# Altium integrated library crystal_my.IntLib: 131 symbols
Pins are listed as number, name and electrical type; pins without a type are passive.

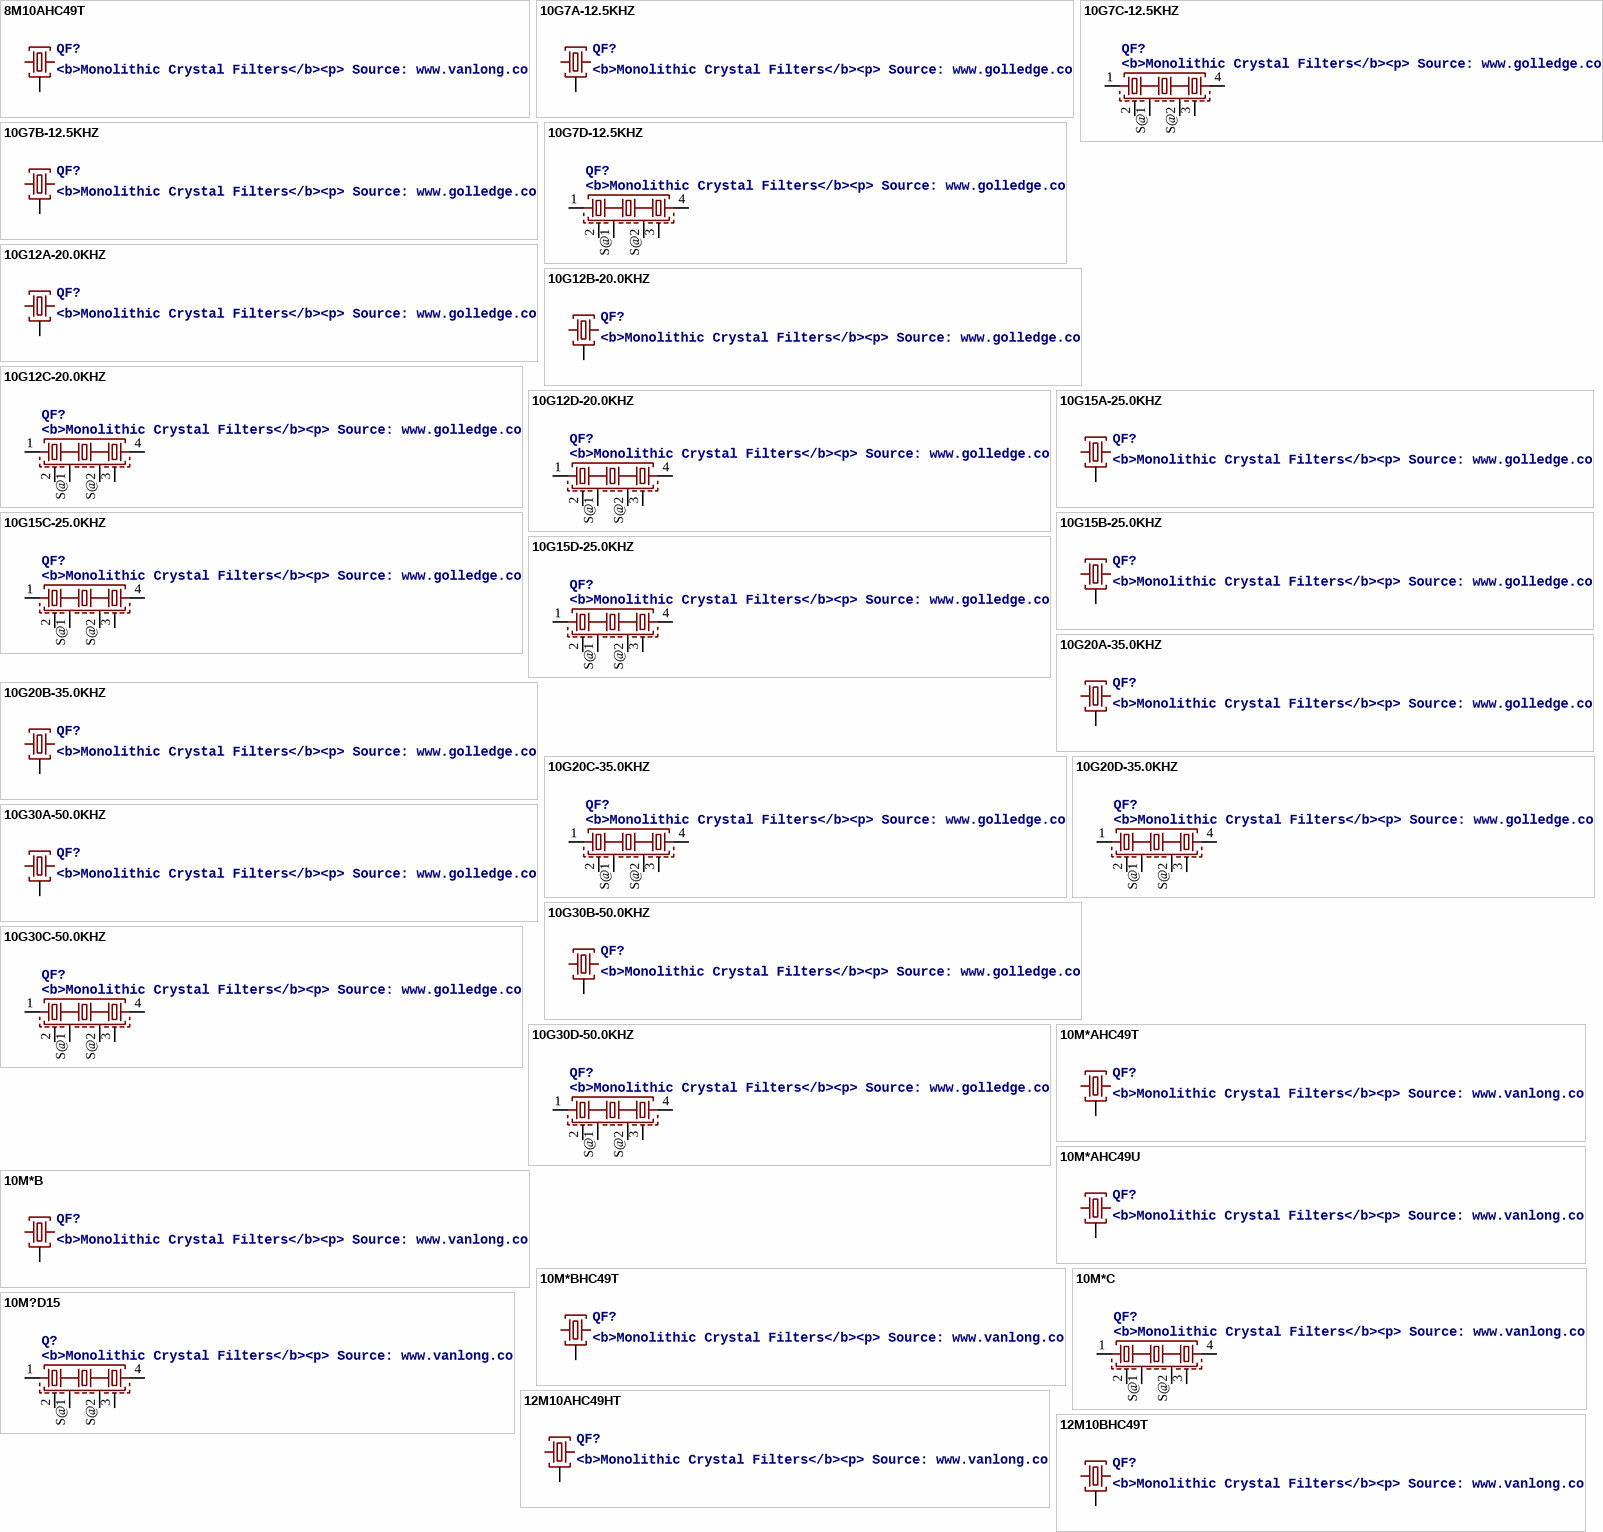
[diagram p0: symbols 8M10AHC49T to 12M10BHC49T]

## 8M10AHC49T
designator QF?, comment <b>Monolithic Crystal Filters</b><p> / Source: www.vanlong.com
OC_FARNELL: unknown; OC_NEWARK: unknown
footprint HC49U
pins: 1, 2, 3

## 10G7A-12.5KHZ
designator QF?, comment <b>Monolithic Crystal Filters</b><p> / Source: www.golledge.com
OC_FARNELL: unknown; OC_NEWARK: unknown
footprint HC49U
pins: 1, 2, 3

## 10G7B-12.5KHZ
designator QF?, comment <b>Monolithic Crystal Filters</b><p> / Source: www.golledge.com
OC_FARNELL: unknown; OC_NEWARK: unknown
footprint HC49U
pins: 1, 2, 3

## 10G7C-12.5KHZ
designator QF?, comment <b>Monolithic Crystal Filters</b><p> / Source: www.golledge.com
OC_FARNELL: unknown; OC_NEWARK: unknown
footprint F15/12B
pins: 1, 2, 3, 4, S@1 S, S@2 S

## 10G7D-12.5KHZ
designator QF?, comment <b>Monolithic Crystal Filters</b><p> / Source: www.golledge.com
OC_FARNELL: unknown; OC_NEWARK: unknown
footprint F18/12P
pins: 1, 2, 3, 4, S@1 S, S@2 S

## 10G12A-20.0KHZ
designator QF?, comment <b>Monolithic Crystal Filters</b><p> / Source: www.golledge.com
OC_FARNELL: unknown; OC_NEWARK: unknown
footprint HC49U
pins: 1, 2, 3

## 10G12B-20.0KHZ
designator QF?, comment <b>Monolithic Crystal Filters</b><p> / Source: www.golledge.com
OC_FARNELL: unknown; OC_NEWARK: unknown
footprint HC49U
pins: 1, 2, 3

## 10G12C-20.0KHZ
designator QF?, comment <b>Monolithic Crystal Filters</b><p> / Source: www.golledge.com
OC_FARNELL: unknown; OC_NEWARK: unknown
footprint F15/12B
pins: 1, 2, 3, 4, S@1 S, S@2 S

## 10G12D-20.0KHZ
designator QF?, comment <b>Monolithic Crystal Filters</b><p> / Source: www.golledge.com
OC_FARNELL: unknown; OC_NEWARK: unknown
footprint F18/12P
pins: 1, 2, 3, 4, S@1 S, S@2 S

## 10G15A-25.0KHZ
designator QF?, comment <b>Monolithic Crystal Filters</b><p> / Source: www.golledge.com
OC_FARNELL: unknown; OC_NEWARK: unknown
footprint HC49U
pins: 1, 2, 3

## 10G15B-25.0KHZ
designator QF?, comment <b>Monolithic Crystal Filters</b><p> / Source: www.golledge.com
OC_FARNELL: unknown; OC_NEWARK: unknown
footprint HC49U
pins: 1, 2, 3

## 10G15C-25.0KHZ
designator QF?, comment <b>Monolithic Crystal Filters</b><p> / Source: www.golledge.com
OC_FARNELL: unknown; OC_NEWARK: unknown
footprint F15/12B
pins: 1, 2, 3, 4, S@1 S, S@2 S

## 10G15D-25.0KHZ
designator QF?, comment <b>Monolithic Crystal Filters</b><p> / Source: www.golledge.com
OC_FARNELL: unknown; OC_NEWARK: unknown
footprint F18/12P
pins: 1, 2, 3, 4, S@1 S, S@2 S

## 10G20A-35.0KHZ
designator QF?, comment <b>Monolithic Crystal Filters</b><p> / Source: www.golledge.com
OC_FARNELL: unknown; OC_NEWARK: unknown
footprint HC49U
pins: 1, 2, 3

## 10G20B-35.0KHZ
designator QF?, comment <b>Monolithic Crystal Filters</b><p> / Source: www.golledge.com
OC_FARNELL: unknown; OC_NEWARK: unknown
footprint HC49U
pins: 1, 2, 3

## 10G20C-35.0KHZ
designator QF?, comment <b>Monolithic Crystal Filters</b><p> / Source: www.golledge.com
OC_FARNELL: unknown; OC_NEWARK: unknown
footprint F15/12B
pins: 1, 2, 3, 4, S@1 S, S@2 S

## 10G20D-35.0KHZ
designator QF?, comment <b>Monolithic Crystal Filters</b><p> / Source: www.golledge.com
OC_FARNELL: unknown; OC_NEWARK: unknown
footprint F18/12P
pins: 1, 2, 3, 4, S@1 S, S@2 S

## 10G30A-50.0KHZ
designator QF?, comment <b>Monolithic Crystal Filters</b><p> / Source: www.golledge.com
OC_FARNELL: unknown; OC_NEWARK: unknown
footprint HC49U
pins: 1, 2, 3

## 10G30B-50.0KHZ
designator QF?, comment <b>Monolithic Crystal Filters</b><p> / Source: www.golledge.com
OC_FARNELL: unknown; OC_NEWARK: unknown
footprint HC49U
pins: 1, 2, 3

## 10G30C-50.0KHZ
designator QF?, comment <b>Monolithic Crystal Filters</b><p> / Source: www.golledge.com
OC_FARNELL: unknown; OC_NEWARK: unknown
footprint F15/12B
pins: 1, 2, 3, 4, S@1 S, S@2 S

## 10G30D-50.0KHZ
designator QF?, comment <b>Monolithic Crystal Filters</b><p> / Source: www.golledge.com
OC_FARNELL: unknown; OC_NEWARK: unknown
footprint F18/12P
pins: 1, 2, 3, 4, S@1 S, S@2 S

## 10M*AHC49T
designator QF?, comment <b>Monolithic Crystal Filters</b><p> / Source: www.vanlong.com
OC_FARNELL: unknown; OC_NEWARK: unknown
footprint HC49U
pins: 1, 2, 3

## 10M*AHC49U
designator QF?, comment <b>Monolithic Crystal Filters</b><p> / Source: www.vanlong.com
OC_FARNELL: unknown; OC_NEWARK: unknown
footprint HC49U
pins: 1, 2, 3

## 10M*B
designator QF?, comment <b>Monolithic Crystal Filters</b><p> / Source: www.vanlong.com
OC_FARNELL: unknown; OC_NEWARK: unknown
footprint HC49U
pins: 1, 2, 3

## 10M*BHC49T
designator QF?, comment <b>Monolithic Crystal Filters</b><p> / Source: www.vanlong.com
OC_FARNELL: unknown; OC_NEWARK: unknown
footprint HC49U
pins: 1, 2, 3

## 10M*C
designator QF?, comment <b>Monolithic Crystal Filters</b><p> / Source: www.vanlong.com
OC_FARNELL: unknown; OC_NEWARK: unknown
footprint M-3
pins: 1, 2, 3, 4, S@1 S, S@2 S

## 10M?D15
designator Q?, comment <b>Monolithic Crystal Filters</b><p> / Source: www.vanlong.com
OC_FARNELL: unknown; OC_NEWARK: unknown
footprint M-4
pins: 1, 2, 3, 4, S@1 S, S@2 S

## 12M10AHC49HT
designator QF?, comment <b>Monolithic Crystal Filters</b><p> / Source: www.vanlong.com
OC_FARNELL: unknown; OC_NEWARK: unknown
footprint HC49U
pins: 1, 2, 3

## 12M10BHC49T
designator QF?, comment <b>Monolithic Crystal Filters</b><p> / Source: www.vanlong.com
OC_FARNELL: unknown; OC_NEWARK: unknown
footprint HC49U
pins: 1, 2, 3

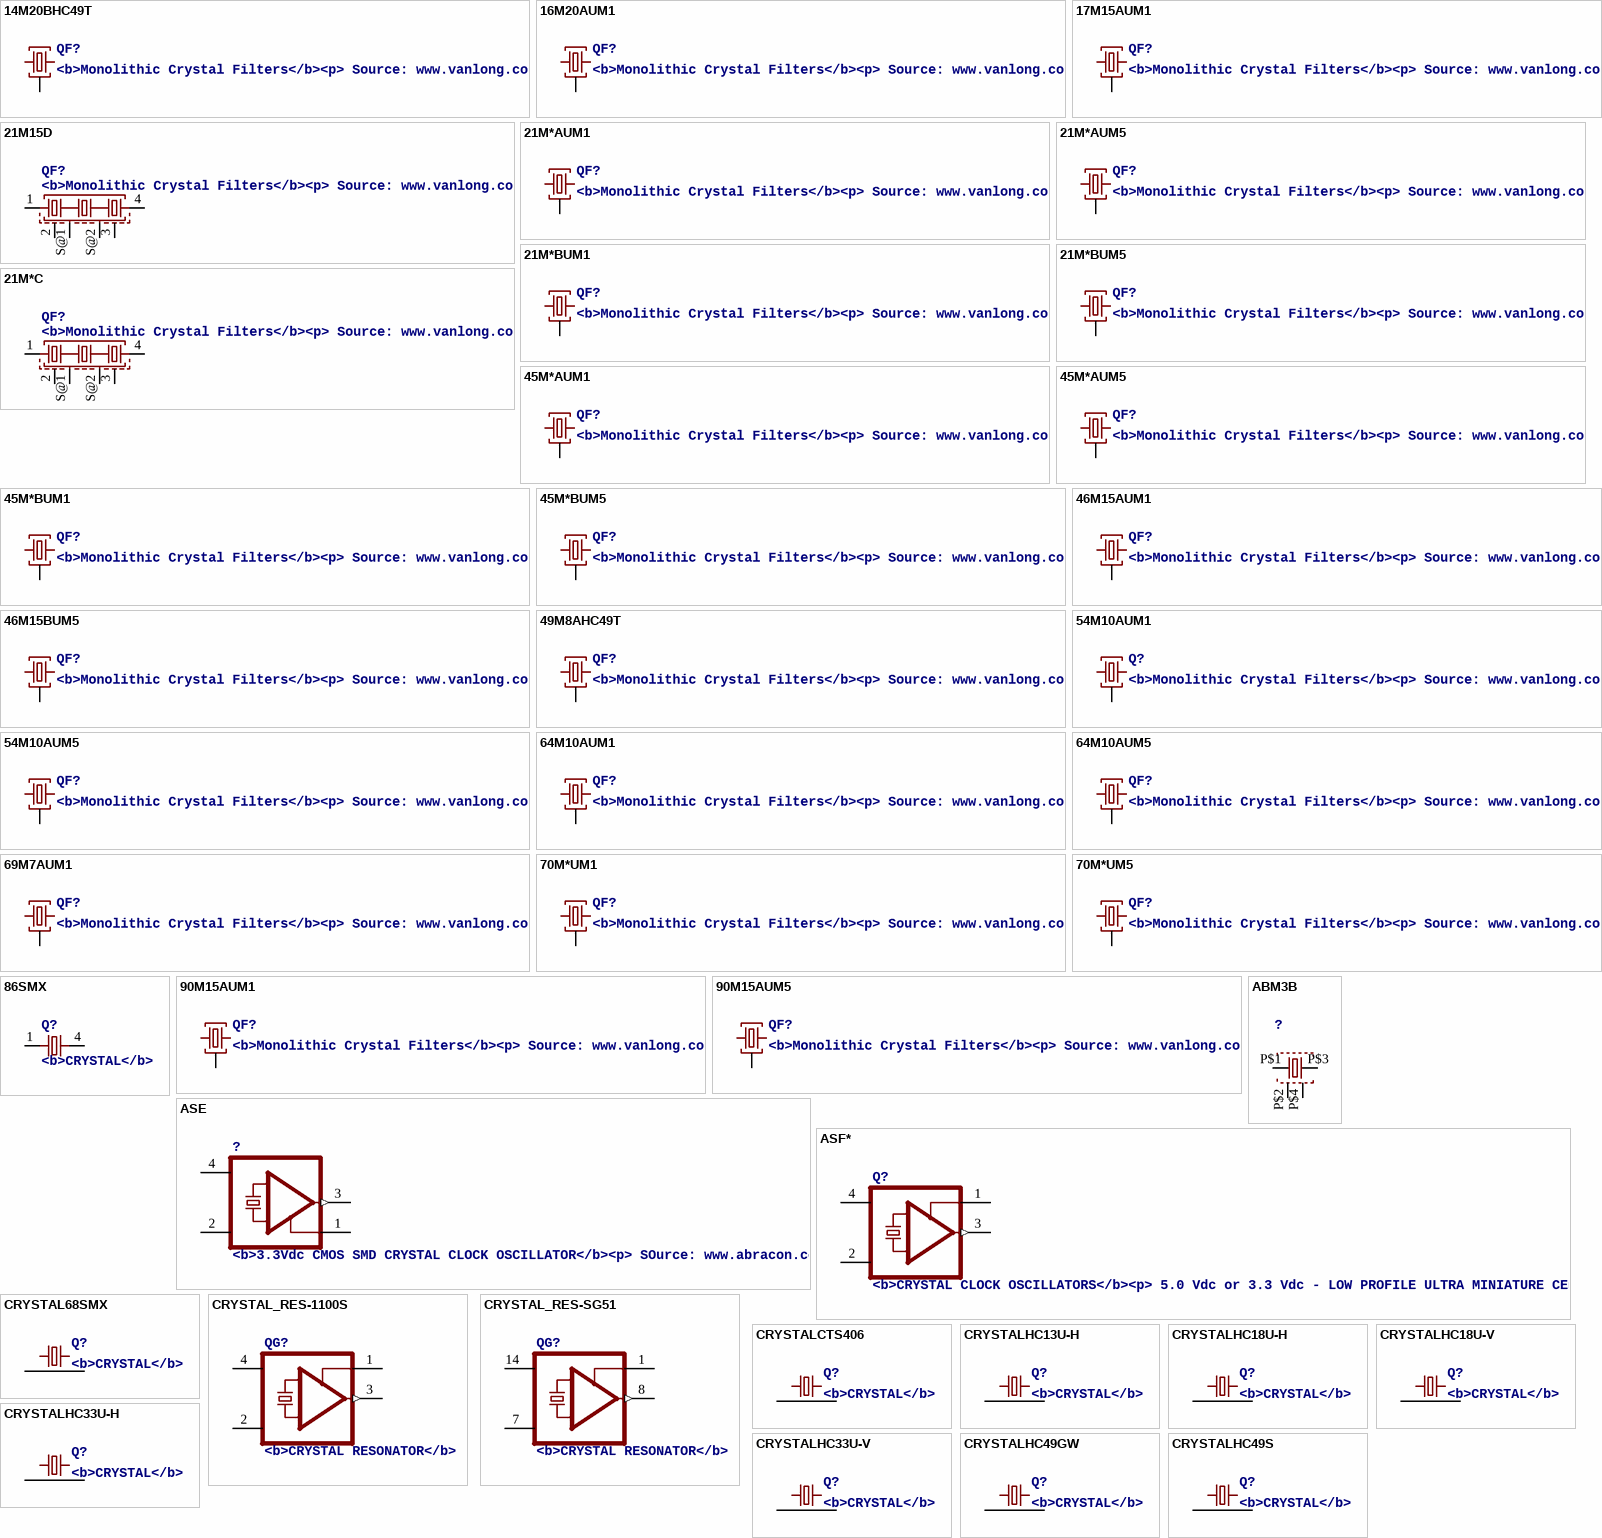
[diagram p1: symbols 14M20BHC49T to CRYSTALHC49S]

## 14M20BHC49T
designator QF?, comment <b>Monolithic Crystal Filters</b><p> / Source: www.vanlong.com
OC_FARNELL: unknown; OC_NEWARK: unknown
footprint HC49U
pins: 1, 2, 3

## 16M20AUM1
designator QF?, comment <b>Monolithic Crystal Filters</b><p> / Source: www.vanlong.com
OC_FARNELL: unknown; OC_NEWARK: unknown
footprint UM1
pins: 1, 2, 3

## 17M15AUM1
designator QF?, comment <b>Monolithic Crystal Filters</b><p> / Source: www.vanlong.com
OC_FARNELL: unknown; OC_NEWARK: unknown
footprint UM1
pins: 1, 2, 3

## 21M15D
designator QF?, comment <b>Monolithic Crystal Filters</b><p> / Source: www.vanlong.com
OC_FARNELL: unknown; OC_NEWARK: unknown
footprint M-2
pins: 1, 2, 3, 4, S@1 S, S@2 S

## 21M*AUM1
designator QF?, comment <b>Monolithic Crystal Filters</b><p> / Source: www.vanlong.com
OC_FARNELL: unknown; OC_NEWARK: unknown
footprint UM1
pins: 1, 2, 3

## 21M*AUM5
designator QF?, comment <b>Monolithic Crystal Filters</b><p> / Source: www.vanlong.com
OC_FARNELL: unknown; OC_NEWARK: unknown
footprint UM5
pins: 1, 2, 3

## 21M*BUM1
designator QF?, comment <b>Monolithic Crystal Filters</b><p> / Source: www.vanlong.com
OC_FARNELL: unknown; OC_NEWARK: unknown
footprint UM1
pins: 1, 2, 3

## 21M*BUM5
designator QF?, comment <b>Monolithic Crystal Filters</b><p> / Source: www.vanlong.com
OC_FARNELL: unknown; OC_NEWARK: unknown
footprint UM5
pins: 1, 2, 3

## 21M*C
designator QF?, comment <b>Monolithic Crystal Filters</b><p> / Source: www.vanlong.com
OC_FARNELL: unknown; OC_NEWARK: unknown
footprint M-1
pins: 1, 2, 3, 4, S@1 S, S@2 S

## 45M*AUM1
designator QF?, comment <b>Monolithic Crystal Filters</b><p> / Source: www.vanlong.com
OC_FARNELL: unknown; OC_NEWARK: unknown
footprint UM1
pins: 1, 2, 3

## 45M*AUM5
designator QF?, comment <b>Monolithic Crystal Filters</b><p> / Source: www.vanlong.com
OC_FARNELL: unknown; OC_NEWARK: unknown
footprint UM5
pins: 1, 2, 3

## 45M*BUM1
designator QF?, comment <b>Monolithic Crystal Filters</b><p> / Source: www.vanlong.com
OC_FARNELL: unknown; OC_NEWARK: unknown
footprint UM1
pins: 1, 2, 3

## 45M*BUM5
designator QF?, comment <b>Monolithic Crystal Filters</b><p> / Source: www.vanlong.com
OC_FARNELL: unknown; OC_NEWARK: unknown
footprint UM5
pins: 1, 2, 3

## 46M15AUM1
designator QF?, comment <b>Monolithic Crystal Filters</b><p> / Source: www.vanlong.com
OC_FARNELL: unknown; OC_NEWARK: unknown
footprint UM1
pins: 1, 2, 3

## 46M15BUM5
designator QF?, comment <b>Monolithic Crystal Filters</b><p> / Source: www.vanlong.com
OC_FARNELL: unknown; OC_NEWARK: unknown
footprint UM5
pins: 1, 2, 3

## 49M8AHC49T
designator QF?, comment <b>Monolithic Crystal Filters</b><p> / Source: www.vanlong.com
OC_FARNELL: unknown; OC_NEWARK: unknown
footprint HC49U
pins: 1, 2, 3

## 54M10AUM1
designator Q?, comment <b>Monolithic Crystal Filters</b><p> / Source: www.vanlong.com
OC_FARNELL: unknown; OC_NEWARK: unknown
footprint UM1
pins: 1, 2, 3

## 54M10AUM5
designator QF?, comment <b>Monolithic Crystal Filters</b><p> / Source: www.vanlong.com
OC_FARNELL: unknown; OC_NEWARK: unknown
footprint UM5
pins: 1, 2, 3

## 64M10AUM1
designator QF?, comment <b>Monolithic Crystal Filters</b><p> / Source: www.vanlong.com
OC_FARNELL: unknown; OC_NEWARK: unknown
footprint UM1
pins: 1, 2, 3

## 64M10AUM5
designator QF?, comment <b>Monolithic Crystal Filters</b><p> / Source: www.vanlong.com
OC_FARNELL: unknown; OC_NEWARK: unknown
footprint UM5
pins: 1, 2, 3

## 69M7AUM1
designator QF?, comment <b>Monolithic Crystal Filters</b><p> / Source: www.vanlong.com
OC_FARNELL: unknown; OC_NEWARK: unknown
footprint UM1
pins: 1, 2, 3

## 70M*UM1
designator QF?, comment <b>Monolithic Crystal Filters</b><p> / Source: www.vanlong.com
OC_FARNELL: unknown; OC_NEWARK: unknown
footprint UM1
pins: 1, 2, 3

## 70M*UM5
designator QF?, comment <b>Monolithic Crystal Filters</b><p> / Source: www.vanlong.com
OC_FARNELL: unknown; OC_NEWARK: unknown
footprint UM5
pins: 1, 2, 3

## 86SMX
designator Q?, comment <b>CRYSTAL</b>
MPN: XTAL003321- 86SMX; MF: C-MAC  FREQUENCY PRODUCTS LTD; OC_FARNELL: 6344914; OC_NEWARK: 01H9866
footprint 86SMX
pins: 1, 4 2

## 90M15AUM1
designator QF?, comment <b>Monolithic Crystal Filters</b><p> / Source: www.vanlong.com
OC_FARNELL: unknown; OC_NEWARK: unknown
footprint UM1
pins: 1, 2, 3

## 90M15AUM5
designator QF?, comment <b>Monolithic Crystal Filters</b><p> / Source: www.vanlong.com
OC_FARNELL: unknown; OC_NEWARK: unknown
footprint UM5
pins: 1, 2, 3

## ABM3B
designator ?
footprint ABM3B
pins: P$1 1, P$2 2, P$3 3, P$4 4

## ASE
designator ?, comment <b>3.3Vdc CMOS SMD CRYSTAL CLOCK OSCILLATOR</b><p> / SOurce: www.abracon.com
OC_FARNELL: unknown; OC_NEWARK: unknown
footprint ASE
pins: 1 TRI, 2 GND (power), 3 OUT (out), 4 VDD (power)

## ASF*
designator Q?, comment <b>CRYSTAL CLOCK OSCILLATORS</b><p> / 5.0 Vdc or 3.3 Vdc - LOW PROFILE ULTRA MINIATURE CERAMIC SURFACE MOUNT<br> / Source: http://www.abracon.com/Oscillators/asf1-L-L1.pdf
MPN: ASFLM1-50.000MHZ-C-T; MPN: ASFL1-125.000MHZ-EC-T; MF: Abracon Corporation; OC_FARNELL: unknown; OC_NEWARK: unknown; OC_FARNELL: 1838931; OC_NEWARK: 99M0411; OC_NEWARK: 19M1882
footprint ASF
pins: 1 OE, 2 GND (power), 3 FO (out), 4 VCC (power)

## CRYSTAL68SMX
designator Q?, comment <b>CRYSTAL</b>
OC_FARNELL: 6344860; OC_NEWARK: unknown
footprint 86SMX
pins: 1, 2 (power), 4 3, 4 (power)

## CRYSTAL_RES-1100S
designator QG?, comment <b>CRYSTAL RESONATOR</b>
OC_FARNELL: unknown; OC_NEWARK: unknown
footprint 1100S
pins: 1 CON, 2 VSS (power), 3 OUT (out), 4 VDD (power)

## CRYSTAL_RES-SG51
designator QG?, comment <b>CRYSTAL RESONATOR</b>
OC_FARNELL: unknown; OC_NEWARK: unknown
footprint SG51
pins: 1 CON, 7 VSS (power), 8 OUT (out), 14 VDD (power)

## CRYSTALCTS406
designator Q?, comment <b>CRYSTAL</b>
OC_FARNELL: unknown; OC_NEWARK: unknown
footprint CTS406
pins: 1, 2 (power), 3, 4 (power)

## CRYSTALHC13U-H
designator Q?, comment <b>CRYSTAL</b>
OC_FARNELL: unknown; OC_NEWARK: unknown
footprint HC13U-H
pins: 1, 2 3, 2 (power), 4 (power)

## CRYSTALHC18U-H
designator Q?, comment <b>CRYSTAL</b>
OC_FARNELL: unknown; OC_NEWARK: unknown
footprint HC18U-H
pins: 1, 2 3, 2 (power), 4 (power)

## CRYSTALHC18U-V
designator Q?, comment <b>CRYSTAL</b>
OC_FARNELL: unknown; OC_NEWARK: unknown
footprint HC18U-V
pins: 1, 2 3, 2 (power), 4 (power)

## CRYSTALHC33U-H
designator Q?, comment <b>CRYSTAL</b>
OC_FARNELL: unknown; OC_NEWARK: unknown
footprint HC33U-H
pins: 1, 2 3, 2 (power), 4 (power)

## CRYSTALHC33U-V
designator Q?, comment <b>CRYSTAL</b>
OC_FARNELL: unknown; OC_NEWARK: unknown
footprint HC33U-V
pins: 1, 2 3, 2 (power), 4 (power)

## CRYSTALHC49GW
designator Q?, comment <b>CRYSTAL</b>
OC_FARNELL: unknown; OC_NEWARK: unknown
footprint HC49GW
pins: 1, 2 3, 2 (power), 4 (power)

## CRYSTALHC49S
designator Q?, comment <b>CRYSTAL</b>
OC_FARNELL: 1667008; OC_NEWARK: unknown
footprint HC49/S
pins: 1, 2 3, 2 (power), 4 (power)

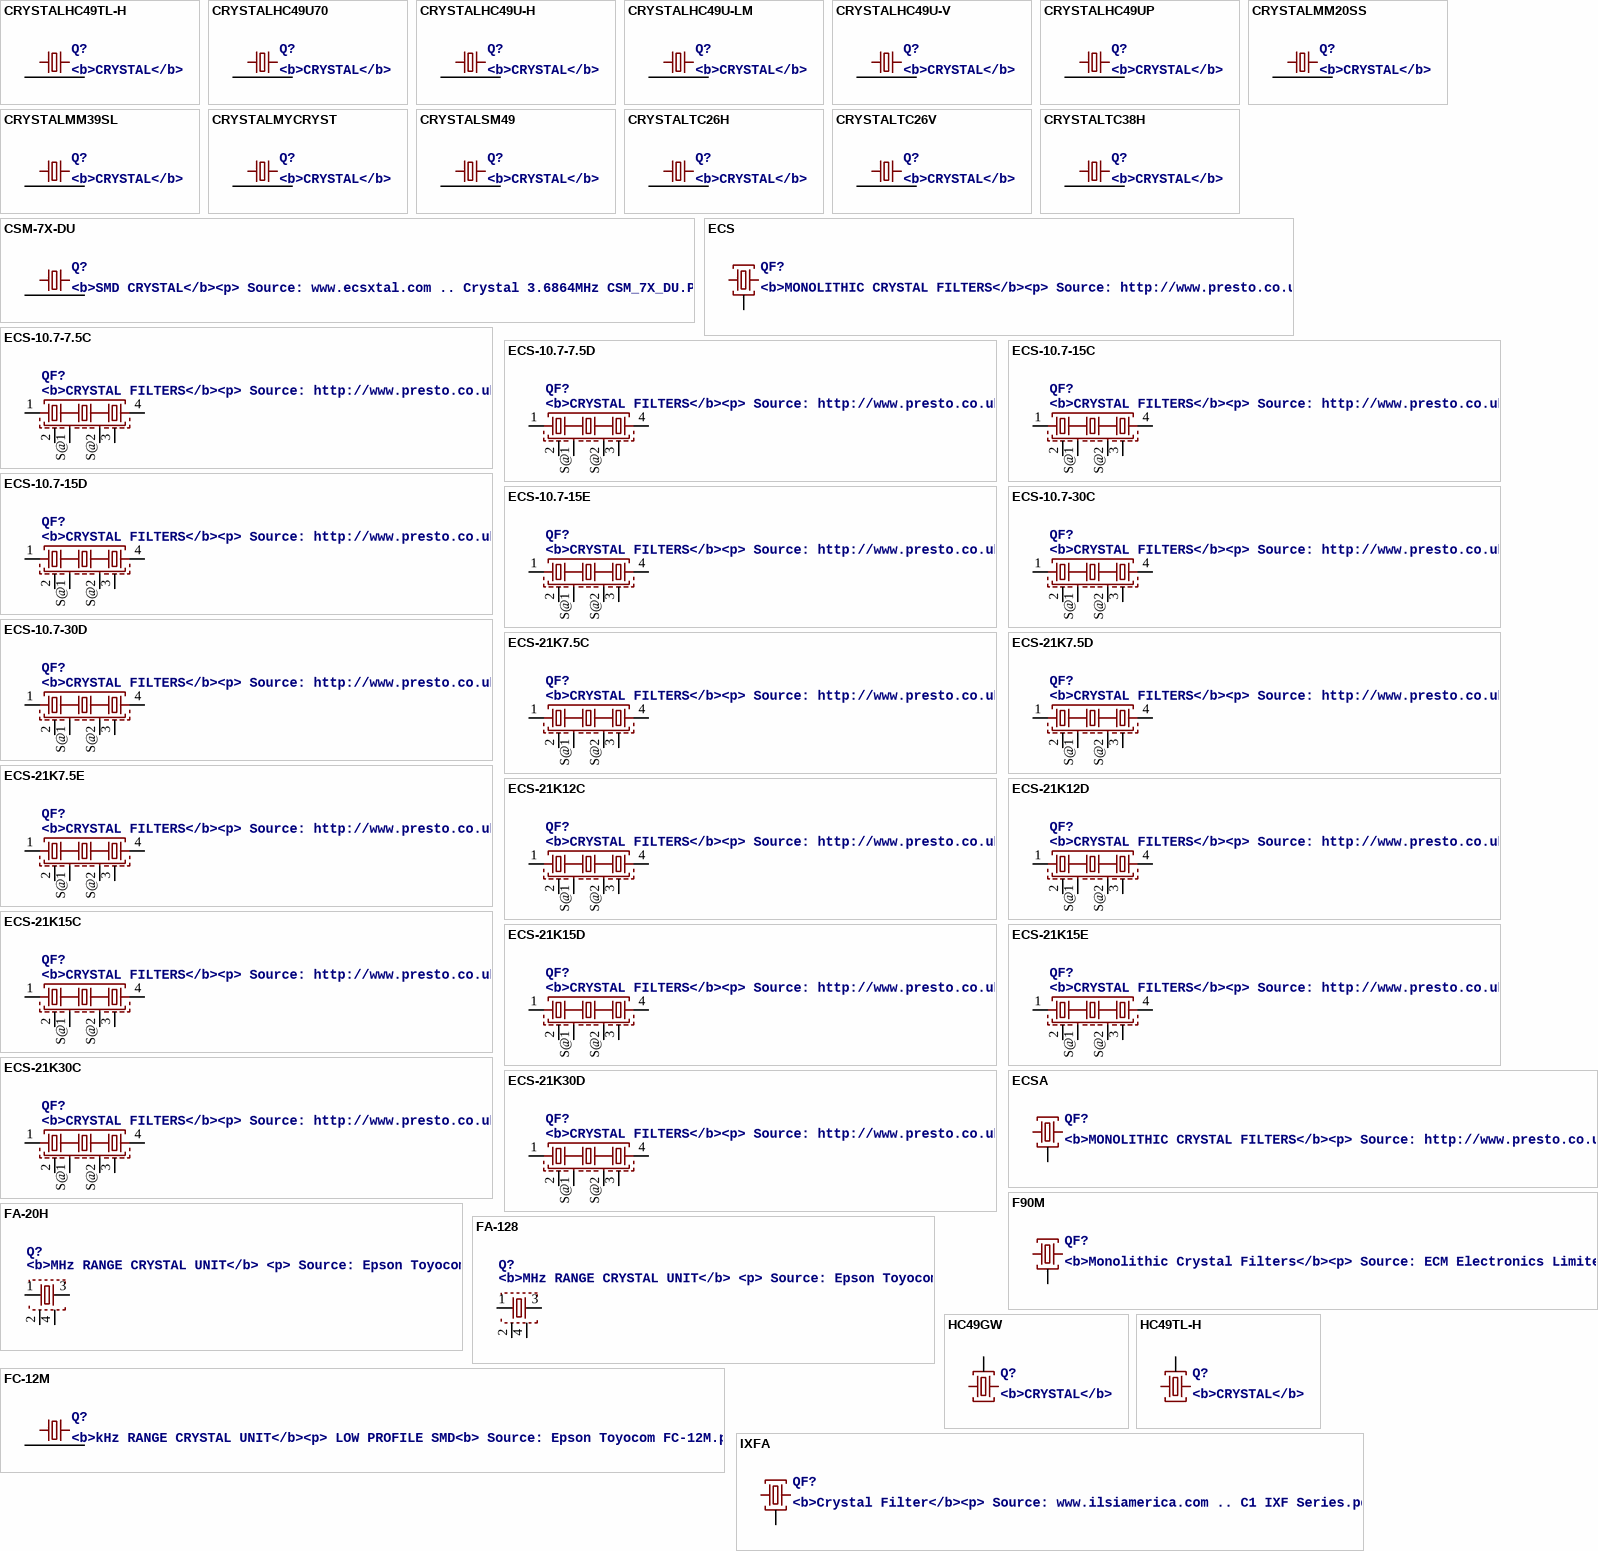
[diagram p2: symbols CRYSTALHC49TL-H to IXFA]

## CRYSTALHC49TL-H
designator Q?, comment <b>CRYSTAL</b>
OC_FARNELL: unknown; OC_NEWARK: unknown
footprint HC49TL-H
pins: 1, 2 3, 2 (power), 4 (power)

## CRYSTALHC49U70
designator Q?, comment <b>CRYSTAL</b>
OC_FARNELL: unknown; OC_NEWARK: unknown
footprint HC49U70
pins: 1, 2 3, 2 (power), 4 (power)

## CRYSTALHC49U-H
designator Q?, comment <b>CRYSTAL</b>
OC_FARNELL: 1666973; OC_NEWARK: unknown
footprint HC49U-H
pins: 1, 2 3, 2 (power), 4 (power)

## CRYSTALHC49U-LM
designator Q?, comment <b>CRYSTAL</b>
OC_FARNELL: 1666956; OC_NEWARK: unknown
footprint HC49U-LM
pins: 1, 2 3, 2 (power), 4 (power)

## CRYSTALHC49U-V
designator Q?, comment <b>CRYSTAL</b>
OC_FARNELL: 1666969; OC_NEWARK: unknown
footprint HC49U-V
pins: 1, 2 3, 2 (power), 4 (power)

## CRYSTALHC49UP
designator Q?, comment <b>CRYSTAL</b>
OC_FARNELL: unknown; OC_NEWARK: unknown
footprint HC49UP
pins: 1, 2 3, 2 (power), 4 (power)

## CRYSTALMM20SS
designator Q?, comment <b>CRYSTAL</b>
OC_FARNELL: unknown; OC_NEWARK: unknown
footprint MM20SS
pins: 1, 2 (power), 4 3, 4 (power)

## CRYSTALMM39SL
designator Q?, comment <b>CRYSTAL</b>
OC_FARNELL: unknown; OC_NEWARK: unknown
footprint MM39SL
pins: 1, 2 (power), 4 3, 4 (power)

## CRYSTALMYCRYST
designator Q?, comment <b>CRYSTAL</b>
footprint CRYST
pins: 2 (power), 4 (power), P$1 1, P$2 3

## CRYSTALSM49
designator Q?, comment <b>CRYSTAL</b>
OC_FARNELL: unknown; OC_NEWARK: unknown
footprint SM49
pins: 1, 2 3, 2 (power), 4 (power)

## CRYSTALTC26H
designator Q?, comment <b>CRYSTAL</b>
OC_FARNELL: unknown; OC_NEWARK: unknown
footprint TC26H
pins: 1, 2 3, 2 (power), 4 (power)

## CRYSTALTC26V
designator Q?, comment <b>CRYSTAL</b>
OC_FARNELL: unknown; OC_NEWARK: unknown
footprint TC26V
pins: 1, 2 3, 2 (power), 4 (power)

## CRYSTALTC38H
designator Q?, comment <b>CRYSTAL</b>
OC_FARNELL: unknown; OC_NEWARK: unknown
footprint TC38H
pins: 1, 2 3, 2 (power), 4 (power)

## CSM-7X-DU
designator Q?, comment <b>SMD CRYSTAL</b><p> / Source: www.ecsxtal.com .. Crystal 3.6864MHz CSM_7X_DU.PDF
OC_FARNELL: unknown; OC_NEWARK: unknown
footprint CSM-7X-DU
pins: 1, 2 3, 2 (power), 4 (power)

## ECS
designator QF?, comment <b>MONOLITHIC CRYSTAL FILTERS</b><p> / Source: http://www.presto.co.uk
OC_FARNELL: unknown; OC_NEWARK: unknown
footprint HC49U
pins: 1, 2, 3

## ECS-10.7-7.5C
designator QF?, comment <b>CRYSTAL FILTERS</b><p> / Source: http://www.presto.co.uk
OC_FARNELL: unknown; OC_NEWARK: unknown
footprint SC-3
pins: 1, 2, 3, 4, S@1 S, S@2 S

## ECS-10.7-7.5D
designator QF?, comment <b>CRYSTAL FILTERS</b><p> / Source: http://www.presto.co.uk
OC_FARNELL: unknown; OC_NEWARK: unknown
footprint SC-4
pins: 1, 2, 3, 4, S@1 S, S@2 S

## ECS-10.7-15C
designator QF?, comment <b>CRYSTAL FILTERS</b><p> / Source: http://www.presto.co.uk
OC_FARNELL: unknown; OC_NEWARK: unknown
footprint SC-3
pins: 1, 2, 3, 4, S@1 S, S@2 S

## ECS-10.7-15D
designator QF?, comment <b>CRYSTAL FILTERS</b><p> / Source: http://www.presto.co.uk
OC_FARNELL: unknown; OC_NEWARK: unknown
footprint SC-4
pins: 1, 2, 3, 4, S@1 S, S@2 S

## ECS-10.7-15E
designator QF?, comment <b>CRYSTAL FILTERS</b><p> / Source: http://www.presto.co.uk
OC_FARNELL: unknown; OC_NEWARK: unknown
footprint SC-5
pins: 1, 2, 3, 4, S@1 S, S@2 S

## ECS-10.7-30C
designator QF?, comment <b>CRYSTAL FILTERS</b><p> / Source: http://www.presto.co.uk
OC_FARNELL: unknown; OC_NEWARK: unknown
footprint SC-3
pins: 1, 2, 3, 4, S@1 S, S@2 S

## ECS-10.7-30D
designator QF?, comment <b>CRYSTAL FILTERS</b><p> / Source: http://www.presto.co.uk
OC_FARNELL: unknown; OC_NEWARK: unknown
footprint SC-4
pins: 1, 2, 3, 4, S@1 S, S@2 S

## ECS-21K7.5C
designator QF?, comment <b>CRYSTAL FILTERS</b><p> / Source: http://www.presto.co.uk
OC_FARNELL: unknown; OC_NEWARK: unknown
footprint SC-1
pins: 1, 2, 3, 4, S@1 S, S@2 S

## ECS-21K7.5D
designator QF?, comment <b>CRYSTAL FILTERS</b><p> / Source: http://www.presto.co.uk
OC_FARNELL: unknown; OC_NEWARK: unknown
footprint SC-1
pins: 1, 2, 3, 4, S@1 S, S@2 S

## ECS-21K7.5E
designator QF?, comment <b>CRYSTAL FILTERS</b><p> / Source: http://www.presto.co.uk
OC_FARNELL: unknown; OC_NEWARK: unknown
footprint SC-2
pins: 1, 2, 3, 4, S@1 S, S@2 S

## ECS-21K12C
designator QF?, comment <b>CRYSTAL FILTERS</b><p> / Source: http://www.presto.co.uk
OC_FARNELL: unknown; OC_NEWARK: unknown
footprint SC-1
pins: 1, 2, 3, 4, S@1 S, S@2 S

## ECS-21K12D
designator QF?, comment <b>CRYSTAL FILTERS</b><p> / Source: http://www.presto.co.uk
OC_FARNELL: unknown; OC_NEWARK: unknown
footprint SC-1
pins: 1, 2, 3, 4, S@1 S, S@2 S

## ECS-21K15C
designator QF?, comment <b>CRYSTAL FILTERS</b><p> / Source: http://www.presto.co.uk
OC_FARNELL: unknown; OC_NEWARK: unknown
footprint SC-1
pins: 1, 2, 3, 4, S@1 S, S@2 S

## ECS-21K15D
designator QF?, comment <b>CRYSTAL FILTERS</b><p> / Source: http://www.presto.co.uk
OC_FARNELL: unknown; OC_NEWARK: unknown
footprint SC-1
pins: 1, 2, 3, 4, S@1 S, S@2 S

## ECS-21K15E
designator QF?, comment <b>CRYSTAL FILTERS</b><p> / Source: http://www.presto.co.uk
OC_FARNELL: unknown; OC_NEWARK: unknown
footprint SC-2
pins: 1, 2, 3, 4, S@1 S, S@2 S

## ECS-21K30C
designator QF?, comment <b>CRYSTAL FILTERS</b><p> / Source: http://www.presto.co.uk
OC_FARNELL: unknown; OC_NEWARK: unknown
footprint SC-1
pins: 1, 2, 3, 4, S@1 S, S@2 S

## ECS-21K30D
designator QF?, comment <b>CRYSTAL FILTERS</b><p> / Source: http://www.presto.co.uk
OC_FARNELL: unknown; OC_NEWARK: unknown
footprint SC-1
pins: 1, 2, 3, 4, S@1 S, S@2 S

## ECSA
designator QF?, comment <b>MONOLITHIC CRYSTAL FILTERS</b><p> / Source: http://www.presto.co.uk
OC_FARNELL: unknown; OC_NEWARK: unknown
footprint UM1
pins: 1, 2, 3

## F90M
designator QF?, comment <b>Monolithic Crystal Filters</b><p> / Source: ECM Electronics Limited
OC_FARNELL: unknown; OC_NEWARK: unknown
footprint UM1
pins: 1, 2, 3

## FA-20H
designator Q?, comment <b>MHz RANGE CRYSTAL UNIT</b> <p> / Source: Epson Toyocom
footprint FA-20H
footprint E2-T
pins: 1, 2, 3, 4

## FA-128
designator Q?, comment <b>MHz RANGE CRYSTAL UNIT</b> <p> / Source: Epson Toyocom
footprint FA-128
pins: 1, 2, 3, 4

## FC-12M
designator Q?, comment <b>kHz RANGE CRYSTAL UNIT</b><p> / LOW PROFILE SMD<b> / Source: Epson Toyocom FC-12M.pdf
footprint FC-12M
pins: 1, 2 3, 2 (power), 4 (power)

## HC49GW
designator Q?, comment <b>CRYSTAL</b>
OC_FARNELL: unknown; OC_NEWARK: unknown
footprint HC49GW
pins: 1, 2, 3

## HC49TL-H
designator Q?, comment <b>CRYSTAL</b>
OC_FARNELL: unknown; OC_NEWARK: unknown
footprint HC49TL-H
pins: 1, 2, 3

## IXFA
designator QF?, comment <b>Crystal Filter</b><p> / Source: www.ilsiamerica.com .. C1 IXF Series.pdf
OC_FARNELL: unknown; OC_NEWARK: unknown
footprint HC49U
pins: 1, 2, 3

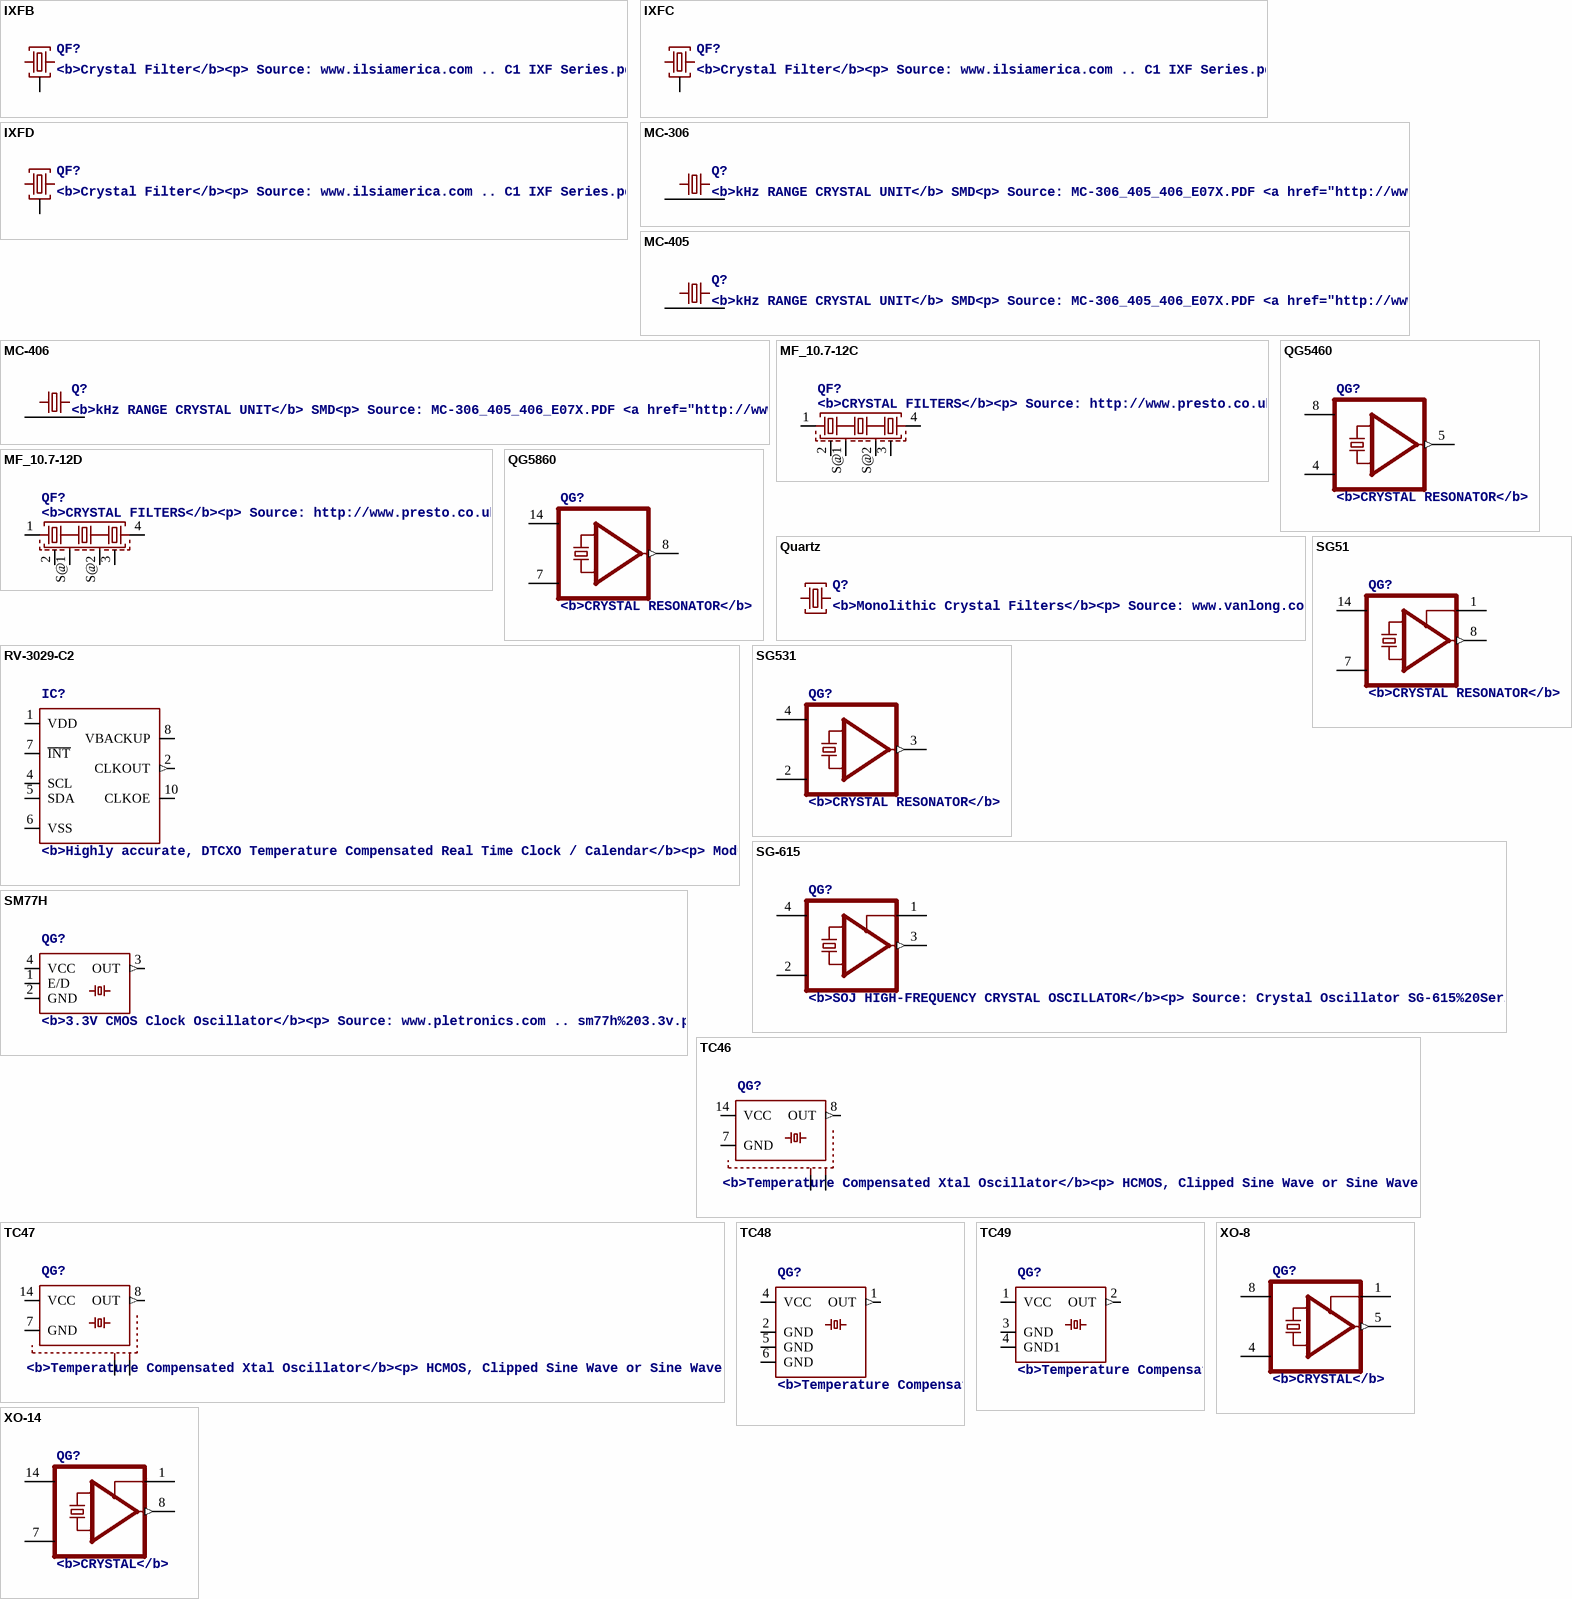
[diagram p3: symbols IXFB to XO-14]

## IXFB
designator QF?, comment <b>Crystal Filter</b><p> / Source: www.ilsiamerica.com .. C1 IXF Series.pdf
OC_FARNELL: unknown; OC_NEWARK: unknown
footprint UM1
pins: 1, 2, 3

## IXFC
designator QF?, comment <b>Crystal Filter</b><p> / Source: www.ilsiamerica.com .. C1 IXF Series.pdf
OC_FARNELL: unknown; OC_NEWARK: unknown
footprint UM4
pins: 1, 2, 3

## IXFD
designator QF?, comment <b>Crystal Filter</b><p> / Source: www.ilsiamerica.com .. C1 IXF Series.pdf
OC_FARNELL: unknown; OC_NEWARK: unknown
footprint UM5
pins: 1, 2, 3

## MC-306
designator Q?, comment <b>kHz RANGE CRYSTAL UNIT</b> SMD<p> / Source: MC-306_405_406_E07X.PDF <a href="http://www.epsontoyocom.co.jp"> Homepage </a>
MPN: MC-306 60.0KHZ  100PPM ,12.5PF; OC_FARNELL: 1278040; OC_NEWARK: 31M5576
footprint MC-306
pins: 1, 2 (power), 4 3, 4 (power)

## MC-405
designator Q?, comment <b>kHz RANGE CRYSTAL UNIT</b> SMD<p> / Source: MC-306_405_406_E07X.PDF <a href="http://www.epsontoyocom.co.jp"> Homepage </a>
OC_FARNELL: unknown; OC_NEWARK: unknown
footprint MC-405
pins: 1, 2 3, 2 (power), 4 (power)

## MC-406
designator Q?, comment <b>kHz RANGE CRYSTAL UNIT</b> SMD<p> / Source: MC-306_405_406_E07X.PDF <a href="http://www.epsontoyocom.co.jp"> Homepage </a>
MPN: MQDMC-406; MF: BANNER ENGINEERING CORPORATION; OC_FARNELL: 1216226; OC_NEWARK: 21H2317
footprint MC-406
pins: 1, 2 (power), 3, 4 (power)

## MF_10.7-12C
designator QF?, comment <b>CRYSTAL FILTERS</b><p> / Source: http://www.presto.co.uk
OC_FARNELL: unknown; OC_NEWARK: unknown
footprint SC-3
pins: 1, 2, 3, 4, S@1 S, S@2 S

## MF_10.7-12D
designator QF?, comment <b>CRYSTAL FILTERS</b><p> / Source: http://www.presto.co.uk
OC_FARNELL: unknown; OC_NEWARK: unknown
footprint SC-4
pins: 1, 2, 3, 4, S@1 S, S@2 S

## QG5460
designator QG?, comment <b>CRYSTAL RESONATOR</b>
OC_FARNELL: unknown; OC_NEWARK: unknown
footprint DIL08S
pins: 4 GND (power), 5 OUT (out), 8 VCC (power)

## QG5860
designator QG?, comment <b>CRYSTAL RESONATOR</b>
OC_FARNELL: unknown; OC_NEWARK: unknown
footprint DIL14S
pins: 7 GND (power), 8 OUT (out), 14 VCC (power)

## Quartz
designator Q?, comment <b>Monolithic Crystal Filters</b><p> / Source: www.vanlong.com
OC_FARNELL: unknown; OC_NEWARK: unknown
footprint TC26V
pins: 1, 2

## RV-3029-C2
designator IC?, comment <b>Highly accurate, DTCXO Temperature Compensated Real Time Clock / Calendar</b><p> / Module with I2C Interface. / Source: <a href="http://www.mcrystal.ch/Resources/PDFs/DataSheet/Real-Time-Clocks/RV-3029-C2.aspx"> Data shhet </a>
footprint SON-10
pins: 1 VDD (power), 2 CLKOUT (out), 4 SCL, 5 SDA, 6 VSS (power), 7 ~{INT}, 8 VBACKUP, 10 CLKOE

## SG51
designator QG?, comment <b>CRYSTAL RESONATOR</b>
OC_FARNELL: unknown; OC_NEWARK: unknown
footprint SG51
pins: 1 OE, 7 GND (power), 8 FO (out), 14 VCC (power)

## SG531
designator QG?, comment <b>CRYSTAL RESONATOR</b>
MPN: SG531P16MHZ; OC_FARNELL: unknown; OC_NEWARK: 01M8837
footprint DIL08-4
pins: 2 GND (power), 3 OUT (out), 4 VCC (power)

## SG-615
designator QG?, comment <b>SOJ HIGH-FREQUENCY CRYSTAL OSCILLATOR</b><p> / Source: Crystal Oscillator SG-615%20Series.pdf
MPN: SG615P-50MHZ 50PPM; MPN: SG615P-25MHZ 50PPM; MPN: SG615P-40MHZ 100PPM; MPN: SG615P-50MHZ 100PPM; OC_FARNELL: 1216207; OC_NEWARK: 01M8855; OC_FARNELL: 1216219; OC_NEWARK: 01M8849; OC_FARNELL: unknown; OC_NEWARK: unknown; OC_FARNELL: 1216205; OC_NEWARK: 01M8851; OC_FARNELL: 1216202; OC_NEWARK: 01M8854
footprint SG-615
pins: 1 OE, 2 GND (power), 3 FO (out), 4 VCC (power)

## SM77H
designator QG?, comment <b>3.3V CMOS Clock Oscillator</b><p> / Source: www.pletronics.com .. sm77h%203.3v.pdf
OC_FARNELL: unknown; OC_NEWARK: unknown
footprint SM77H
pins: 1 E/D, 2 GND (power), 3 OUT (out), 4 VCC (power)

## TC46
designator QG?, comment <b>Temperature Compensated Xtal Oscillator</b><p> / HCMOS, Clipped Sine Wave or Sine Wave Compatible<br> / Source: www.pletronics.com .. tc4.pdf
OC_FARNELL: unknown; OC_NEWARK: unknown
footprint TC46
pins: 7 GND (power), 8 OUT (out), 14 VCC (power), S@1 S1, S@2 S2

## TC47
designator QG?, comment <b>Temperature Compensated Xtal Oscillator</b><p> / HCMOS, Clipped Sine Wave or Sine Wave Compatible<br> / Source: www.pletronics.com .. tc4.pdf
OC_FARNELL: unknown; OC_NEWARK: unknown
footprint TC47
pins: 7 GND (power), 8 OUT (out), 14 VCC (power), S@1 S1, S@2 S2

## TC48
designator QG?, comment <b>Temperature Compensated Xtal Oscillator</b><p> / HCMOS, Clipped Sine Wave or Sine Wave Compatible<br> / Source: www.pletronics.com .. tc4.pdf
OC_FARNELL: unknown; OC_NEWARK: unknown
footprint TC48
pins: 1 OUT (out), 2 GND (power), 4 VCC (power), 5 GND (power), 6 GND (power)

## TC49
designator QG?, comment <b>Temperature Compensated Xtal Oscillator</b><p> / HCMOS, Clipped Sine Wave or Sine Wave Compatible<br> / Source: www.pletronics.com .. tc4.pdf
OC_FARNELL: unknown; OC_NEWARK: unknown
footprint TC49
pins: 1 VCC (power), 2 OUT (out), 3 GND (power), 4 GND1 (power)

## XO-8
designator QG?, comment <b>CRYSTAL</b>
OC_FARNELL: unknown; OC_NEWARK: unknown
footprint DIL08S
pins: 1 TS, 4 GND (power), 5 OUT (out), 8 VCC (power)

## XO-14
designator QG?, comment <b>CRYSTAL</b>
OC_FARNELL: unknown; OC_NEWARK: unknown
footprint DIL14S
pins: 1 TS, 7 GND (power), 8 OUT (out), 14 VCC (power)